# EAGLE library part A3921KLPTR-T (library A3921KLPTR-T)
Automotive Full Bridge MOSFET Driver Source: Datasheet <http://www.allegromicro.com/~/media/files/datasheets/a3921-datasheet.pdf>
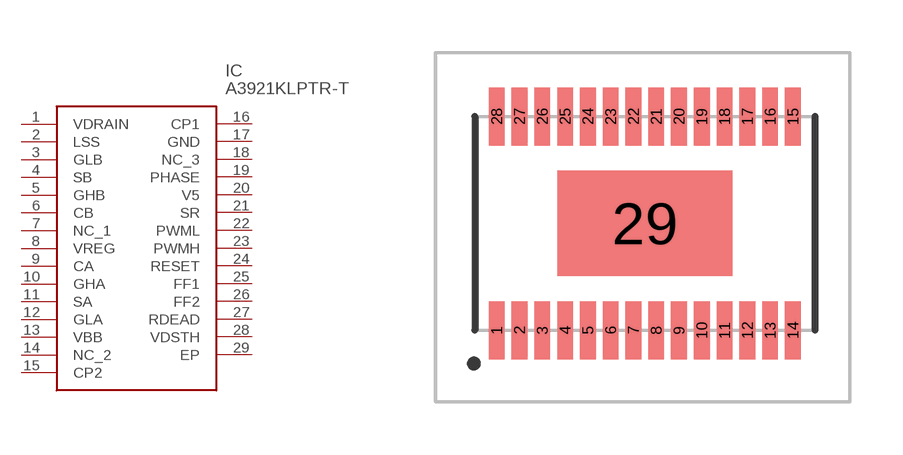
[diagram p0: symbol with the pads of A3944KLPTRT; footprint A3944KLPTRT]

Designator prefix IC

## A3921KLPTR-T (Arrow_Part_Number: A3921KLPTR-T; Arrow_Price-Stock: https://www.arrow.com/en/products/a3921klptr-t/allegro-microsystems?region=nac; Description: Automotive Full Bridge MOSFET Driver; Height: 1.2mm; Manufacturer_Name: Allegro Microsystems; Manufacturer_Part_Number: A3921KLPTR-T; Mouser_Part_Number: 250-A3921KLPTR-T; Mouser_Price-Stock: https://www.mouser.co.uk/ProductDetail/Allegro-MicroSystems/A3921KLPTR-T?qs=pUKx8fyJudB0kHLM8sWE6w%3D%3D)  [A3944KLPTRT]
1  VDRAIN
2  LSS
3  GLB
4  SB
5  GHB
6  CB
7  NC_1
8  VREG
9  CA
10  GHA
11  SA
12  GLA
13  VBB
14  NC_2
15  CP2
16  CP1
17  GND
18  NC_3
19  PHASE
20  V5
21  SR
22  PWML
23  PWMH
24  RESET
25  FF1
26  FF2
27  RDEAD
28  VDSTH
29  EP

## Footprint A3944KLPTRT (pad centres in mm)
LP_28-pin eTSSOP
smd 0.45 x 1.65: 1 -4.225,-3.05; 2 -3.575,-3.05; 3 -2.925,-3.05; 4 -2.275,-3.05; 5 -1.625,-3.05; 6 -0.975,-3.05; 7 -0.325,-3.05; 8 0.325,-3.05; 9 0.975,-3.05; 10 1.625,-3.05; 11 2.275,-3.05; 12 2.925,-3.05; 13 3.575,-3.05; 14 4.225,-3.05; 15 4.225,3.05; 16 3.575,3.05; 17 2.925,3.05; 18 2.275,3.05; 19 1.625,3.05; 20 0.975,3.05; 21 0.325,3.05; 22 -0.325,3.05; 23 -0.975,3.05; 24 -1.625,3.05; 25 -2.275,3.05; 26 -2.925,3.05; 27 -3.575,3.05; 28 -4.225,3.05
smd 5 x 3: 29 0,0